# Altium integrated library WS2812B.IntLib: 1 symbol
Pins are listed as number, name and electrical type; pins without a type are passive.

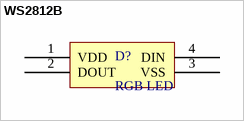
[diagram p0: symbol WS2812B]

## WS2812B
designator D?, comment RGB LED
RGB 620~630nm Red, 515~530nm Green, 465~475nm Blue SMD,5x5mm Light Emitting Diodes (LED) ROHS; Manufacturer: Worldsemi; Value: WS2812B
footprint WS2812B (RGB 620~630nm Red, 515~530nm Green, 465~475nm Blue SMD,5x5mm Light Emitting Diodes (LED) ROHS)
pins: 1 VDD, 2 DOUT, 3 VSS, 4 DIN